# EAGLE library part HX711_LOADCELL_ADC (library e-radionica_E-R MADE)
SKU: 222011 The HX711 breakout allows you to easily read the weight value from a local-cell sensor (mass sensor). This small ADC is of great precision and is capable of measuring very small changes in the load-cell resistance, whose signals are amplified with the built-in amplifier. Subsequently, this same information is digitally transmitted to a microcontroller that simply converts the numbers obtained into the actual weight. That's why this breakout is very useful for projects with scales or presence sensors, either for individuals or industry. Breakout supports the connection of load cells that are made by the Wheatstone Bridge technique, like most of the load cells. They usually have four wires, two for power supply (E + and E, most often red and black), and two for signal (A + and A-, most commonly white and green wire). The pins for these wires are also indicated on the plate and it is easy to connect. • ADC precision: 24-bit • Amplification: 128 for A channel, 64 for B channel • Voltage: 2.7V - 5.5V • Current: less than 1.5mA • Reading speed: 10SPS(samples per second) or 80SPS • Dimensions: 22 x 25 mm
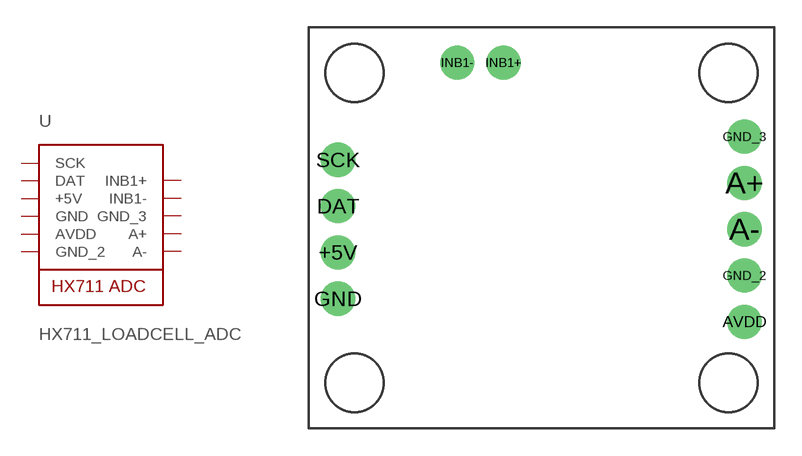
[diagram p5: symbol with the pads of HX711_LEADCELL_ADC; footprint HX711_LEADCELL_ADC]

Designator prefix -

## HX711_LOADCELL_ADC  [HX711_LEADCELL_ADC]
+5V  +5V  sup
A+  A+
A-  A-
AVDD  AVDD  sup
DAT  DAT
GND  GND  sup
GND_2  GND_2  sup
GND_3  GND_3  sup
INB1+  INB1+
INB1-  INB1-
SCK  SCK

## Footprint HX711_LEADCELL_ADC (pad centres in mm)
drill 1.016 pad 1.88: +5V 1.6,9.652; A+ 23.876,13.462; A- 23.876,10.922; AVDD 23.876,5.842; DAT 1.6,12.192; GND 1.6,7.112; GND_2 23.876,8.382; GND_3 23.876,16.002; INB1+ 10.668,20.066; INB1- 8.128,20.066; SCK 1.6,14.732